# Altium schematic symbol library sch.SchLib: 13 symbols
Pins are listed as number, name and electrical type; pins without a type are passive.

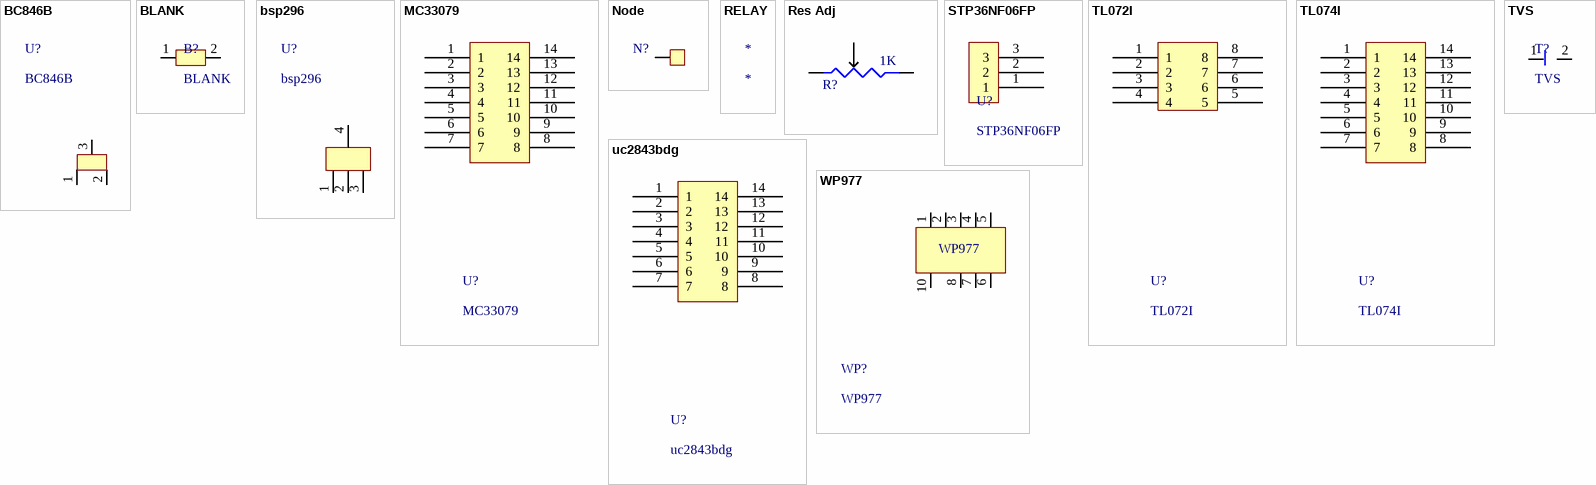
[diagram p0: symbols BC846B to WP977]

## BC846B
designator U?
pins: 1, 2, 3

## BLANK
designator B?
footprint 0805 (Chip Capacitor; Body 2.0 x 1.2 mm (LxW typ))
pins: 1, 2

## bsp296
designator U?
pins: 1, 2, 3, 4

## MC33079
designator U?
footprint SOIC14 (SSOP, Plastic; 14 Leads; Body Width 5.3 mm; Pitch 0.65 mm)
pins: 1, 2, 3, 4, 5, 6, 7, 8, 9, 10, 11, 12, 13, 14

## Node
designator N?  (value not drawn)
pins: 1

## RELAY
designator *

## Res Adj
designator R?  value 1K
Tapped Resistor; Sim Note: Enter the Resistance value and the set point into parameter fields.; Set Position: 0.5; Published: 24-Mar-1999; LatestRevisionDate: 17-Jul-2002; LatestRevisionNote: Re-released for DXP Platform.; PackageReference: VR3; Publisher: Altium Limited
footprint VR3 (Variable Resistor, Thru-Hole; 3 Leads)
simulation model POT (Potentiometer)
signal-integrity model Res Tap
pins: 1 A, 2 TAP, 3 B

## STP36NF06FP
designator U?
pins: 1, 2, 3

## TL072I
designator U?
footprint SOIC8_L (8-Pin Small Outline Integrated Circuit Package (SOIC8), IPC High Density)
pins: 1, 2, 3, 4, 5, 6, 7, 8

## TL074I
designator U?
footprint SOIC14 (SSOP, Plastic; 14 Leads; Body Width 5.3 mm; Pitch 0.65 mm)
pins: 1, 2, 3, 4, 5, 6, 7, 8, 9, 10, 11, 12, 13, 14

## TVS
designator T?
pins: 1, 2

## uc2843bdg
designator U?
footprint SOIC14 (SSOP, Plastic; 14 Leads; Body Width 5.3 mm; Pitch 0.65 mm)
pins: 1, 2, 3, 4, 5, 6, 7, 8, 9, 10, 11, 12, 13, 14

## WP977
designator WP?
pins: 1, 2, 3, 4, 5, 6, 7, 8, 10